# EAGLE library part 12PIN (library GimbalStabilizer)
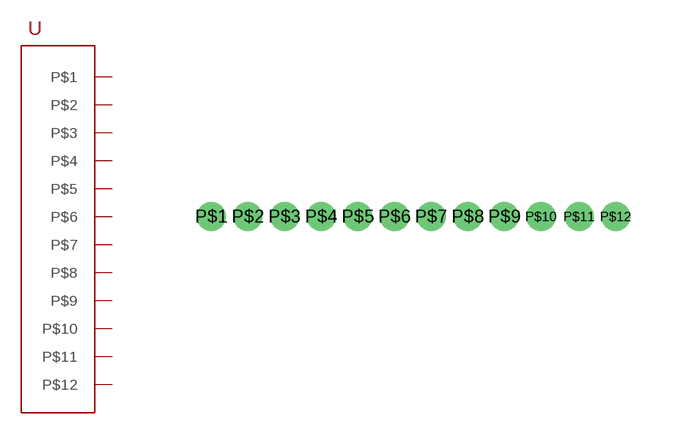
[diagram p4: symbol with the pads of 12PIN; footprint 12PIN]

Designator prefix -

## 12PIN  [12PIN]
P$1  P$1
P$2  P$2
P$3  P$3
P$4  P$4
P$5  P$5
P$6  P$6
P$7  P$7
P$8  P$8
P$9  P$9
P$10  P$10
P$11  P$11
P$12  P$12

## Footprint 12PIN (pad centres in mm)
drill 0.5: P$1 -5.08,0; P$2 -3.81,0; P$3 -2.54,0; P$4 -1.27,0; P$5 0,0; P$6 1.27,0; P$7 2.54,0; P$8 3.81,0; P$9 5.08,0; P$10 6.35,0; P$11 7.67,0; P$12 8.94,0